# Altium footprint library Current-to-Voltage.PcbLib: 11 footprints
Each footprint in its own frame and in the unit in brackets; x right, y up, seen from the top. Pads: shape width x height; smd on the part's side, far side on the other; paste and mask are expansions set on the pad; w line width, h text height; cw(c..) or ccw(c..) is an arc to the next point about the centre after c.
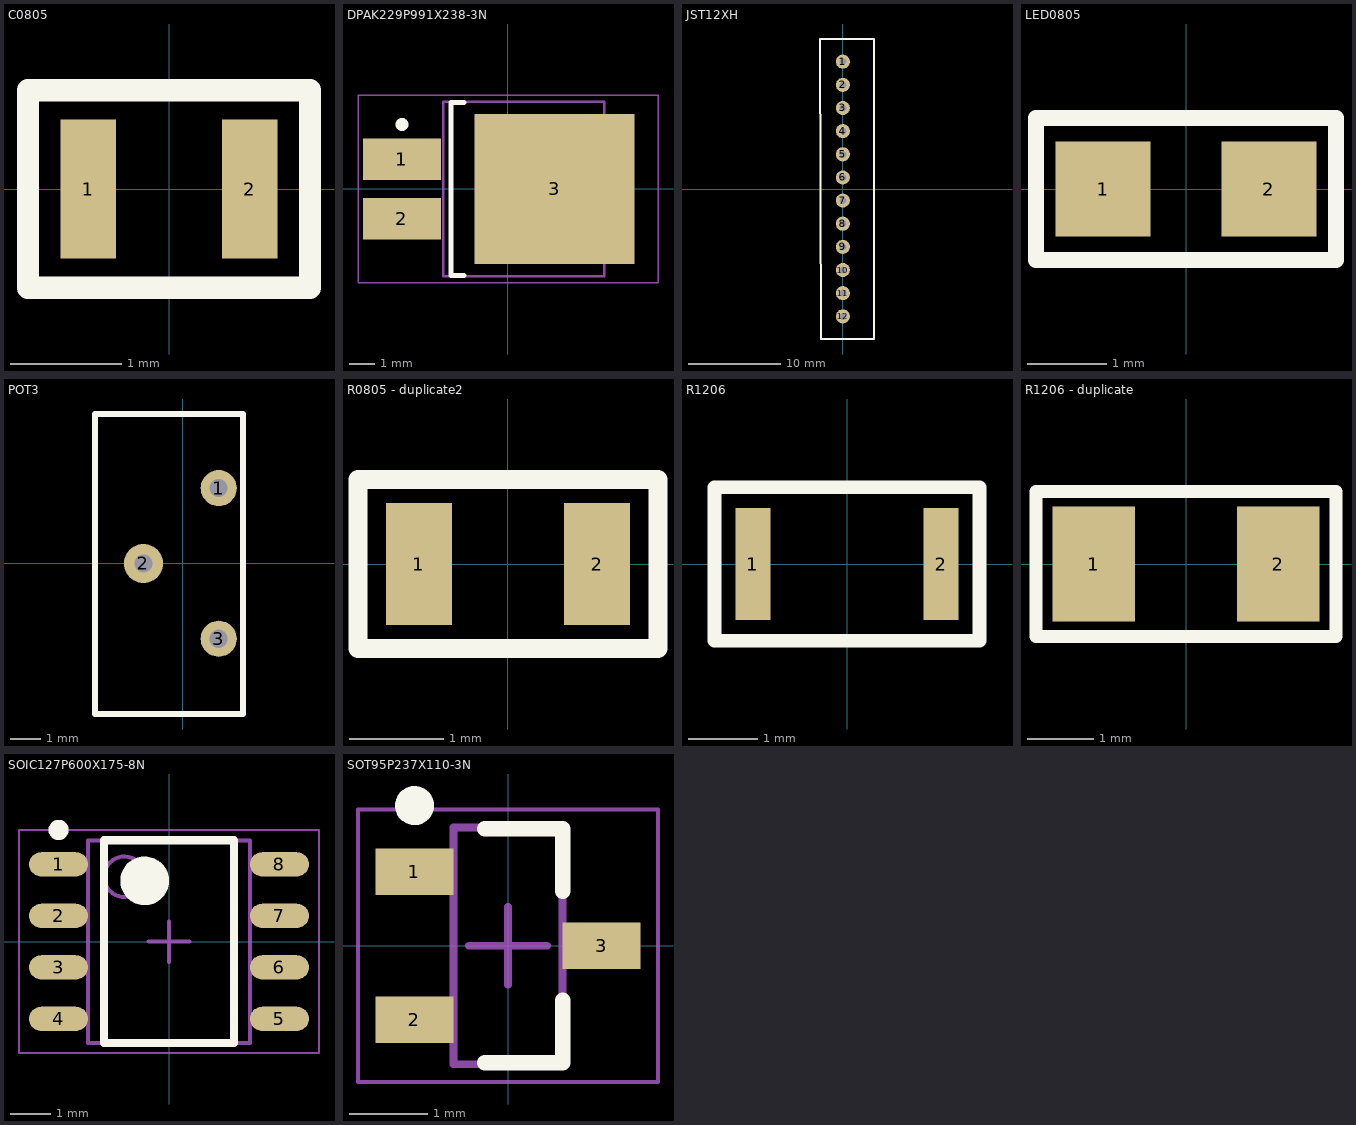
[diagram p0: the footprints below, top view; thin cyan lines are the x and y axes]

## C0805 [mm]
pads (2):
  rect 0.5x1.25 smd: 1(-0.725,0) 2(0.725,0)
Top Overlay:
  lines w0.2: -1.27,-0.889 1.27,-0.889 1.27,0.889 -1.27,0.889 -1.27,-0.889
3D body "User Library-CAPC2012X___.step": height 0.57, standoff 0, extent -1,-0.635 1,0.635

## DPAK229P991X238-3N [mm] "D-PAK, 3-Pads, Body 6.21x6.73mm (max), IPC Medium Density"
height 2.38
pads (3):
  rect 3x1.6 smd: 1(-4.1,1.145) 2(-4.1,-1.145)
  rect 6.2x5.8 smd: 3(1.8,0)
Top Overlay:
  circle w0.25: c-4.1,2.495 r0.125
  lines w0.2: -1.7,-3.35 -2.2,-3.35 -2.2,3.35 -1.7,3.35
Mechanical 13:
  lines w0.1: -2.5,-3.375 -2.5,3.375 3.72,3.375 3.72,-3.375 -2.5,-3.375
Mechanical 15:
  lines w0.05: -5.8,-3.625 -5.8,3.625 5.8,3.625 5.8,-3.625 -5.8,-3.625
  lines w0.1: -0.5,0 0.5,0 ; 0,-0.5 0,0.5
3D body "DPAK229P991X238-3N.step": height 2.51, standoff 0, extent -3.95,-3.375 5.955,3.375

## JST12XH [mil]
pads (12):
  round 60 hole 30: 1(0,541.34) 2(0,442.91) 3(0,344.49) 4(0,246.06) 5(0,147.64) 6(0,49.21) 7(0,-49.21) 8(0,-147.64) 9(0,-246.06) 10(0,-344.49) 11(0,-442.91) 12(0,-541.34)
Top Overlay:
  lines w7.87: -97.44,637.8 -92.52,-637.8 0,-637.8 132.87,-637.8 132.87,637.8 -97.44,637.8

## LED0805 [mm]
pads (2):
  rect 1.2x1.2 smd: 1(-1.05,0) 2(1.05,0)
Top Overlay:
  lines w0.2: -1.9,-0.9 1.9,-0.9 1.9,0.9 -1.9,0.9 -1.9,-0.9
3D body "everlight-17-21-0805LED-GREEN.step": height 1.12, standoff 0.01, extent -1,-0.625 1,0.625

## PCBComponent_1 [mm]

## POT3 [mm]
pads (3):
  round 1.2 hole 0.6: 1(1.2,2.5) 3(1.2,-2.5)
  round 1.3 hole 0.6: 2(-1.3,0)
Top Overlay:
  lines w0.2: -2.9,-5 -2.9,-4.6 -2.9,4.762 -2.9,4.962 2,4.962 2,4.725 2,-5 -2.9,-5

## R0805 - duplicate2 [mm]
pads (2):
  rect 0.7x1.3 smd: 1(-0.95,0) 2(0.95,0)
Top Overlay:
  lines w0.2: -1.6,-0.9 1.6,-0.9 1.6,0.9 -1.6,0.9 -1.6,-0.9
3D body "User Library-CR2012-0805.step": height 0.61, standoff 0.01, extent -1,-0.625 1,0.625

## R1206 [mm]
pads (2):
  rect 0.5x1.6 smd: 1(-1.35,0) 2(1.35,0)
Top Overlay:
  lines w0.2: -1.9,-1.1 1.9,-1.1 1.9,1.1 -1.9,1.1 -1.9,-1.1
3D body "User Library-R_1206.step": height 0.6, standoff 0, extent -1.6,-0.8 1.6,0.8

## R1206 - duplicate [mm]
pads (2):
  rect 1.25x1.75 smd: 1(-1.4,0) 2(1.4,0)
Top Overlay:
  lines w0.2: -2.275,-1.1 -2.275,1.1 2.275,1.1 2.275,-1.1 -2.275,-1.1

## SOIC127P600X175-8N [mm] "SOIC, 8-Leads, Body 4.90x3.90mm, Pitch 1.27mm, IPC Medium Density"
height 1.75
pads (8):
  oval 1.45x0.6 smd: 1(-2.725,1.905) 2(-2.725,0.635) 3(-2.725,-0.635) 4(-2.725,-1.905) 5(2.725,-1.905) 6(2.725,-0.635) 7(2.725,0.635) 8(2.725,1.905)
Top Overlay:
  circle w0.6: c-0.6,1.5 r0.3
  circle w0.25: c-2.725,2.755 r0.125
  lines w0.2: -1.6,-2.5 1.6,-2.5 1.6,2.5 -1.6,2.5 -1.6,-2.5
Mechanical 13:
  circle w0.1: c-1.1,1.6 r0.5
  lines w0.1: -2,-2.5 2,-2.5 2,2.5 -2,2.5 -2,-2.5
Mechanical 15:
  lines w0.05: -3.7,-2.75 3.7,-2.75 3.7,2.75 -3.7,2.75 -3.7,-2.75
  lines w0.1: -0.5,0 0.5,0 ; 0,-0.5 0,0.5
3D body "SOIC127P600X175-8N.step": height 1.75, standoff 0, extent -3,-2.5 3,2.5

## SOT95P237X110-3N [mm] "SOT23, 3-Leads, Body 2.92x2.37mm, Pitch 0.95mm, IPC Medium Density"
height 1.1
pads (3):
  rect 1x0.6 smd: 1(-1.2,0.95) 2(-1.2,-0.95) 3(1.2,0)
Top Overlay:
  circle w0.25: c-1.2,1.8 r0.125
  lines w0.2: -0.3,-1.5 0.7,-1.5 0.7,-0.7 ; -0.3,1.5 0.7,1.5 0.7,0.7
Mechanical 13:
  lines w0.1: -0.7,-1.52 -0.7,1.52 0.7,1.52 0.7,-1.52 -0.7,-1.52
Mechanical 15:
  lines w0.05: -1.925,-1.75 -1.925,1.75 1.925,1.75 1.925,-1.75 -1.925,-1.75
  lines w0.1: -0.5,0 0.5,0 ; 0,-0.5 0,0.5
3D body: height 1.1, standoff 0.01, extent -0.7,-1.52 0.7,1.52